# Altium footprint library OVLBx4C7.PcbLib: 1 footprints
Each footprint in its own frame and in the unit in brackets; x right, y up, seen from the top. Pads: shape width x height; smd on the part's side, far side on the other; paste and mask are expansions set on the pad; w line width, h text height; cw(c..) or ccw(c..) is an arc to the next point about the centre after c.
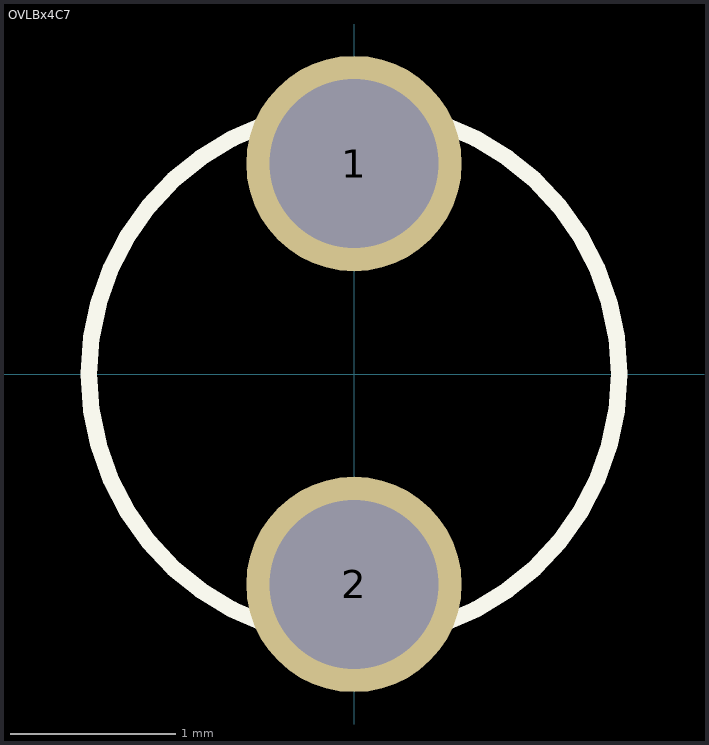
[diagram p0: the footprint, top view; thin cyan lines are the x and y axes]

## OVLBx4C7 [mm] "TT_Electronics 3mm LED"
pads (2):
  round 1.3 hole 1.02 unplated: 1(0,1.27) 2(0,-1.27)
Top Overlay:
  circle w0.1: c0,0 r1.6
3D body "3mm_LED.stp": height 5.6, standoff -2, extent -1.5,-1.5 1.5,1.5